# Altium schematic symbol library HW_ADHERENT_NFC_R1_L1.SchLib: 515 symbols (part 3 of 8)
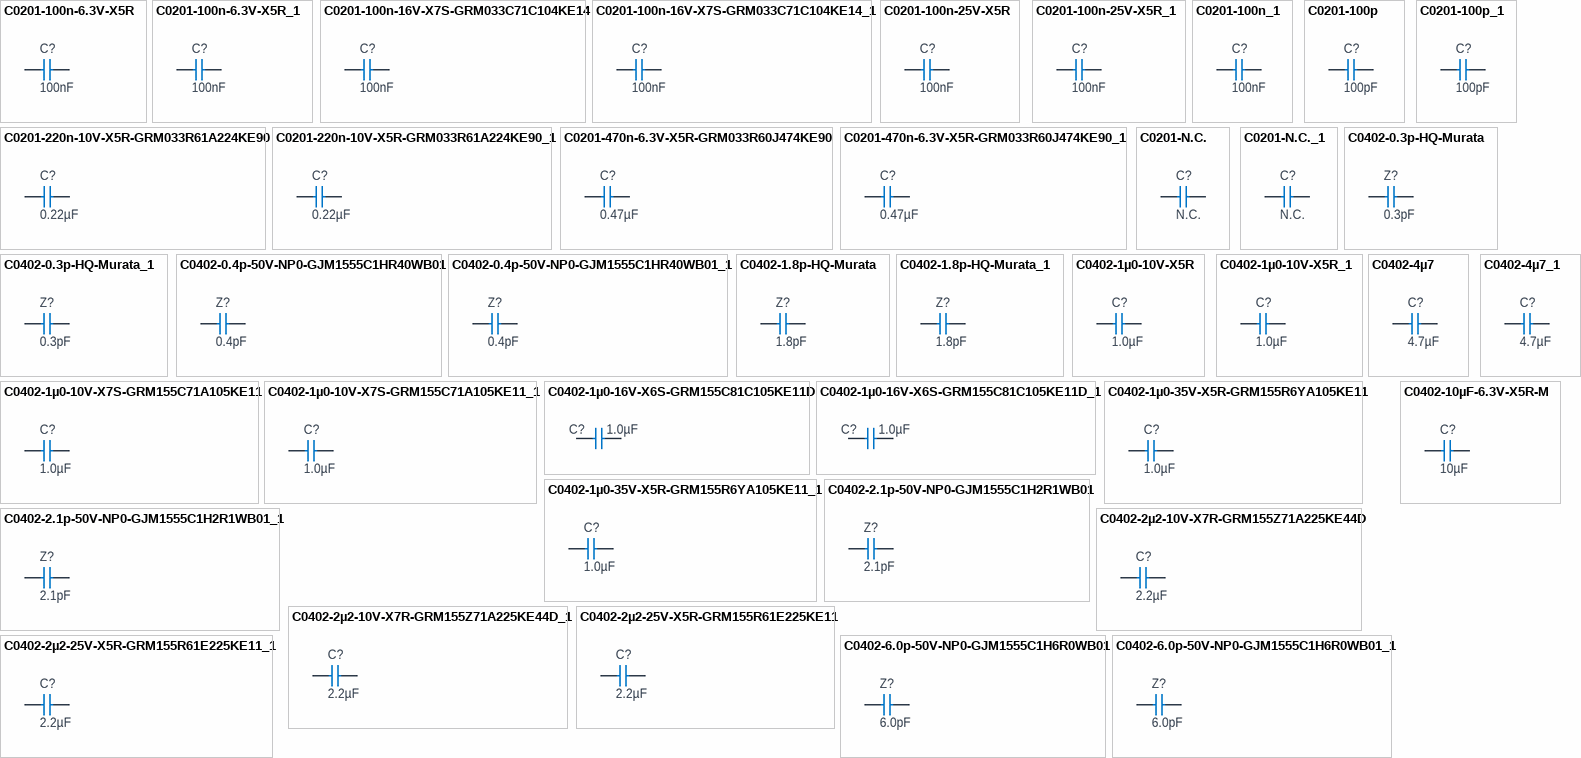
[diagram p17: symbols C0201-100n-6.3V-X5R to C0402-10µF-6.3V-X5R-M]

## C0402-1µ0-16V-X6S-GRM155C81C105KE11D_1
designator C?, comment 1.0µF
Capacitor, Ceramic, 1.0µF 16V X6S 0402,±10%; Part Number: C0402-1µ0-16V-X6S-GRM155C81C105KE11D; Manufacturer: Murata; Manufacturer Part Number: GRM155C81C105KE11D; Part number NEMS: 100200516; Pad Count: 2; Artikkelnr Noca: N.A.; Component Status: Active; Component Class: Capacitors; Author: prbu; ComponentLink1URL: https://www.murata.com/en-sg/products/productdetail?partno=GRM155C81C105KE11%23; ComponentLink1Description: Datasheet; ComponentLink2URL: https://www.digikey.com/en/products/detail/murata-electronics/GRM155C81C105KE11D/4905091; ComponentLink2Description: Supplier link; HelpURL: N.A.; Footprint Doc: 0402; LatestRevisionDate: 2023-01-03; Published: 2022-07-01; Value: 1.0µF; Note: 16V; Supplier 1: Digi-Key; Supplier Part Number 1: 490-12700-2-ND; Supplier 2: Mouser; Supplier Part Number 2: 81-GRM155C81C105KE1D; Part number IPS: N.A.; Part number Norautron: N.A.; PartId: 100200516
footprint CAPC1005X04L
pins: 1, 2

## C0402-1µ0-35V-X5R-GRM155R6YA105KE11
designator C?, comment 1.0µF
Capacitor, Ceramic, 1.0µF 35V X5R 0402,±10%; Part Number: C0402-1µ0-35V-X5R-GRM155R6YA105KE11; Manufacturer: Murata; Manufacturer Part Number: GRM155R6YA105KE11D; Part number NEMS: 100200489; Pad Count: 2; Artikkelnr Noca: N.A.; Component Status: Active; Component Class: Capacitors; Author: prbu; ComponentLink1URL: https://www.murata.com/en-sg/products/productdetail?partno=GRM155R6YA105KE11%23; ComponentLink1Description: Datasheet; ComponentLink2URL: https://www.digikey.com/en/products/detail/murata-electronics/GRM155R6YA105KE11D/4905162; ComponentLink2Description: Supplier link; HelpURL: N.A.; Footprint Doc: 0402; LatestRevisionDate: 2021-12-09; Published: 2021-12-09; Value: 1.0µF; Note: 35V; Supplier 1: Mouser; Supplier Part Number 1: 81-GRM155R6YA105KE1D; Supplier 2: Digi-Key; Supplier Part Number 2: 490-10019-1-ND; Part number IPS: N.A.; Part number Norautron: N.A.; PartId: 100200489
footprint CAPC1005X04L
pins: 1, 2

## C0402-1µ0-35V-X5R-GRM155R6YA105KE11_1
designator C?, comment 1.0µF
Capacitor, Ceramic, 1.0µF 35V X5R 0402,±10%; Part Number: C0402-1µ0-35V-X5R-GRM155R6YA105KE11; Manufacturer: Murata; Manufacturer Part Number: GRM155R6YA105KE11D; Part number NEMS: 100200489; Pad Count: 2; Artikkelnr Noca: N.A.; Component Status: Active; Component Class: Capacitors; Author: prbu; ComponentLink1URL: https://www.murata.com/en-sg/products/productdetail?partno=GRM155R6YA105KE11%23; ComponentLink1Description: Datasheet; ComponentLink2URL: https://www.digikey.com/en/products/detail/murata-electronics/GRM155R6YA105KE11D/4905162; ComponentLink2Description: Supplier link; HelpURL: N.A.; Footprint Doc: 0402; LatestRevisionDate: 2021-12-09; Published: 2021-12-09; Value: 1.0µF; Note: 35V; Supplier 1: Mouser; Supplier Part Number 1: 81-GRM155R6YA105KE1D; Supplier 2: Digi-Key; Supplier Part Number 2: 490-10019-1-ND; Part number IPS: N.A.; Part number Norautron: N.A.; PartId: 100200489
footprint CAPC1005X04L
pins: 1, 2

## C0402-2.1p-50V-NP0-GJM1555C1H2R1WB01
designator Z?, comment 2.1pF
Capacitor, NP0, ±0.05pF, 50V; Part Number: C0402-2.1p-50V-NP0-GJM1555C1H2R1WB01; Manufacturer: Murata; Manufacturer Part Number: GJM1555C1H2R1WB01D; Part number NEMS: 100200533; Pad Count: 2; Note: N.A.; Component Status: Active; Component Class: Capacitors; Author: rubr; ComponentLink1URL: https://search.murata.co.jp/Ceramy/image/img/A01X/G101/ENG/GJM1555C1H2R1WB01-01.pdf; ComponentLink1Description: Datasheet; ComponentLink2URL: https://www.digikey.com/en/products/detail/murata-electronics/GJM1555C1H2R1WB01D/2592918; ComponentLink2Description: Supplier link; HelpURL: https://www.murata.com/en-us/products/productdetail?partno=GJM1555C1H2R1WB01%23; Footprint Doc: 0402; LatestRevisionDate: 2022-12-16; Published: 2022-12-16; Value: 2.1pF; Supplier 1: Digi-Key; Supplier Part Number 1: 490-GJM1555C1H2R1WB01DCT-ND; Supplier 2: N.A.; Supplier Part Number 2: N.A.; Artikkelnr Noca: N.A.; Part number IPS: N.A.; Part number Norautron: N.A.; PartId: 100200533
footprint CAPC1005X04L
footprint C1608X06L-C1005X04M (Chip Capacitor, 2-Leads, Body 1.6x0.8mm, IPC High Density)
pins: 1, 2

## C0402-2.1p-50V-NP0-GJM1555C1H2R1WB01_1
designator Z?, comment 2.1pF
Capacitor, NP0, ±0.05pF, 50V; Part Number: C0402-2.1p-50V-NP0-GJM1555C1H2R1WB01; Manufacturer: Murata; Manufacturer Part Number: GJM1555C1H2R1WB01D; Part number NEMS: 100200533; Pad Count: 2; Note: N.A.; Component Status: Active; Component Class: Capacitors; Author: rubr; ComponentLink1URL: https://search.murata.co.jp/Ceramy/image/img/A01X/G101/ENG/GJM1555C1H2R1WB01-01.pdf; ComponentLink1Description: Datasheet; ComponentLink2URL: https://www.digikey.com/en/products/detail/murata-electronics/GJM1555C1H2R1WB01D/2592918; ComponentLink2Description: Supplier link; HelpURL: https://www.murata.com/en-us/products/productdetail?partno=GJM1555C1H2R1WB01%23; Footprint Doc: 0402; LatestRevisionDate: 2022-12-16; Published: 2022-12-16; Value: 2.1pF; Supplier 1: Digi-Key; Supplier Part Number 1: 490-GJM1555C1H2R1WB01DCT-ND; Supplier 2: N.A.; Supplier Part Number 2: N.A.; Artikkelnr Noca: N.A.; Part number IPS: N.A.; Part number Norautron: N.A.; PartId: 100200533
footprint CAPC1005X04L
footprint C1608X06L-C1005X04M (Chip Capacitor, 2-Leads, Body 1.6x0.8mm, IPC High Density)
pins: 1, 2

## C0402-2µ2-10V-X7R-GRM155Z71A225KE44D
designator C?, comment 2.2µF
Capacitor, Ceramic, X7R, ±10%, 10V; Part Number: C0402-2µ2-10V-X7R-GRM155Z71A225KE44D; Manufacturer: Murata; Manufacturer Part Number: GRM155Z71A225KE44D; Part number NEMS: 100200653; Component Status: Active; Pad Count: 2; Note: -55°C ~ 125°C; Artikkelnr Noca: N.A.; PartId: 100200653; Component Class: Capacitors; Author: ersa; ComponentLink1URL: https://search.murata.co.jp/Ceramy/image/img/A01X/G101/ENG/GRM155Z71A225KE44-01A.pdf; ComponentLink1Description: Datasheet; ComponentLink2URL: N.A.; ComponentLink2Description: Supplier link; HelpURL: N.A.; LatestRevisionDate: 2024-02-07; Published: 2024-02-07; Footprint Doc: 0402; Value: 2.2µF; Supplier 1: Digi-Key; Supplier Part Number 1: 490-GRM155Z71A225KE44DTR-ND; Supplier 2: N.A.; Supplier Part Number 2: N.A.; Part number IPS: N.A.; Part number Norautron: N.A.
footprint CAPC1005X04L_C2
pins: 1, 2

## C0402-2µ2-10V-X7R-GRM155Z71A225KE44D_1
designator C?, comment 2.2µF
Capacitor, Ceramic, X7R, ±10%, 10V; Part Number: C0402-2µ2-10V-X7R-GRM155Z71A225KE44D; Manufacturer: Murata; Manufacturer Part Number: GRM155Z71A225KE44D; Part number NEMS: 100200653; Component Status: Active; Pad Count: 2; Note: -55°C ~ 125°C; Artikkelnr Noca: N.A.; PartId: 100200653; Component Class: Capacitors; Author: ersa; ComponentLink1URL: https://search.murata.co.jp/Ceramy/image/img/A01X/G101/ENG/GRM155Z71A225KE44-01A.pdf; ComponentLink1Description: Datasheet; ComponentLink2URL: N.A.; ComponentLink2Description: Supplier link; HelpURL: N.A.; LatestRevisionDate: 2024-02-07; Published: 2024-02-07; Footprint Doc: 0402; Value: 2.2µF; Supplier 1: Digi-Key; Supplier Part Number 1: 490-GRM155Z71A225KE44DTR-ND; Supplier 2: N.A.; Supplier Part Number 2: N.A.; Part number IPS: N.A.; Part number Norautron: N.A.
footprint CAPC1005X04L_C2
pins: 1, 2

## C0402-2µ2-25V-X5R-GRM155R61E225KE11
designator C?, comment 2.2µF
Capacitor, Ceramic, 2.2µF 25V X5R 0402,±10%; Part Number: C0402-2µ2-25V-X5R-GRM155R61E225KE11; Manufacturer: Murata; Manufacturer Part Number: GRM155R61E225KE11D; Part number NEMS: 100200492; Pad Count: 2; Artikkelnr Noca: N.A.; Component Status: Active; Component Class: Capacitors; Author: prbu; ComponentLink1URL: https://www.murata.com/en-sg/products/productdetail?partno=GRM155R61E225KE11%23; ComponentLink1Description: Datasheet; ComponentLink2URL: https://www.mouser.com/ProductDetail/Murata-Electronics/GRM155R61E225KE11D?qs=eeBpzGFlv%252B8X58bIUndZvA%3D%3D; ComponentLink2Description: Supplier link; HelpURL: N.A.; Footprint Doc: 0402; LatestRevisionDate: 2021-12-09; Published: 2021-12-09; Value: 2.2µF; Note: 25V; Supplier 1: Mouser; Supplier Part Number 1: 81-GRM155R61E225KE1D; Supplier 2: Digi-Key; Supplier Part Number 2: 490-12703-1-ND; Part number IPS: N.A.; Part number Norautron: N.A.; PartId: 100200492
footprint CAPC1005X04L
pins: 1, 2

## C0402-2µ2-25V-X5R-GRM155R61E225KE11_1
designator C?, comment 2.2µF
Capacitor, Ceramic, 2.2µF 25V X5R 0402,±10%; Part Number: C0402-2µ2-25V-X5R-GRM155R61E225KE11; Manufacturer: Murata; Manufacturer Part Number: GRM155R61E225KE11D; Part number NEMS: 100200492; Pad Count: 2; Artikkelnr Noca: N.A.; Component Status: Active; Component Class: Capacitors; Author: prbu; ComponentLink1URL: https://www.murata.com/en-sg/products/productdetail?partno=GRM155R61E225KE11%23; ComponentLink1Description: Datasheet; ComponentLink2URL: https://www.mouser.com/ProductDetail/Murata-Electronics/GRM155R61E225KE11D?qs=eeBpzGFlv%252B8X58bIUndZvA%3D%3D; ComponentLink2Description: Supplier link; HelpURL: N.A.; Footprint Doc: 0402; LatestRevisionDate: 2021-12-09; Published: 2021-12-09; Value: 2.2µF; Note: 25V; Supplier 1: Mouser; Supplier Part Number 1: 81-GRM155R61E225KE1D; Supplier 2: Digi-Key; Supplier Part Number 2: 490-12703-1-ND; Part number IPS: N.A.; Part number Norautron: N.A.; PartId: 100200492
footprint CAPC1005X04L
pins: 1, 2

## C0402-4µ7
designator C?, comment 4.7µF
Capacitor, X5R, ±20%; Part Number: C0402-4µ7; Manufacturer: N.A.; Part number IPS: 00000001251, 00000007165; Part number NEMS: 100200193; Pad Count: 2; Component Status: Active; Note: 10V; Artikkelnr Noca: 20039482; Footprint Doc: 0402; Value: 4.7µF; Author: rsk; PartId: 100200193; Component Class: Capacitors; Manufacturer Part Number: N.A.; ComponentLink1URL: N.A.; ComponentLink1Description: Datasheet; ComponentLink2URL: N.A.; ComponentLink2Description: Supplier link; HelpURL: N.A.; LatestRevisionDate: 2017-11-09; Published: 2009-05-08; Supplier 1: Digi-Key; Supplier Part Number 1: 490-13252-1-ND; Supplier 2: N.A.; Supplier Part Number 2: N.A.; Part number Norautron: N.A.
footprint CAPC1005X04L
pins: 1, 2

## C0402-4µ7_1
designator C?, comment 4.7µF
Capacitor, X5R, ±20%; Part Number: C0402-4µ7; Manufacturer: N.A.; Part number IPS: 00000001251, 00000007165; Part number NEMS: 100200193; Pad Count: 2; Component Status: Active; Note: 10V; Artikkelnr Noca: 20039482; Footprint Doc: 0402; Value: 4.7µF; Author: rsk; PartId: 100200193; Component Class: Capacitors; Manufacturer Part Number: N.A.; ComponentLink1URL: N.A.; ComponentLink1Description: Datasheet; ComponentLink2URL: N.A.; ComponentLink2Description: Supplier link; HelpURL: N.A.; LatestRevisionDate: 2017-11-09; Published: 2009-05-08; Supplier 1: Digi-Key; Supplier Part Number 1: 490-13252-1-ND; Supplier 2: N.A.; Supplier Part Number 2: N.A.; Part number Norautron: N.A.
footprint CAPC1005X04L
pins: 1, 2

## C0402-6.0p-50V-NP0-GJM1555C1H6R0WB01
designator Z?, comment 6.0pF
Capacitor, NP0, ±0.05pF, 50V; Part Number: C0402-6.0p-50V-NP0-GJM1555C1H6R0WB01; Manufacturer: Murata; Manufacturer Part Number: GJM1555C1H6R0WB01D; Part number NEMS: 100200532; Pad Count: 2; Note: N.A.; Component Status: Active; Component Class: Capacitors; Author: rubr; ComponentLink1URL: https://search.murata.co.jp/Ceramy/image/img/A01X/G101/ENG/GJM1555C1H6R0WB01-01.pdf; ComponentLink1Description: Datasheet; ComponentLink2URL: https://www.digikey.com/en/products/detail/murata-electronics/GJM1555C1H6R0WB01D/2593066; ComponentLink2Description: Supplier link; HelpURL: https://www.murata.com/en-us/products/productdetail?partno=GJM1555C1H6R0WB01%23; Footprint Doc: 0402; LatestRevisionDate: 2022-12-16; Published: 2022-12-16; Value: 6.0pF; Supplier 1: Digi-Key; Supplier Part Number 1: 490-11230-1-ND; Supplier 2: N.A.; Supplier Part Number 2: N.A.; Artikkelnr Noca: N.A.; Part number IPS: N.A.; Part number Norautron: N.A.; PartId: 100200532
footprint CAPC1005X04L
footprint C1608X06L-C1005X04M (Chip Capacitor, 2-Leads, Body 1.6x0.8mm, IPC High Density)
pins: 1, 2

## C0402-6.0p-50V-NP0-GJM1555C1H6R0WB01_1
designator Z?, comment 6.0pF
Capacitor, NP0, ±0.05pF, 50V; Part Number: C0402-6.0p-50V-NP0-GJM1555C1H6R0WB01; Manufacturer: Murata; Manufacturer Part Number: GJM1555C1H6R0WB01D; Part number NEMS: 100200532; Pad Count: 2; Note: N.A.; Component Status: Active; Component Class: Capacitors; Author: rubr; ComponentLink1URL: https://search.murata.co.jp/Ceramy/image/img/A01X/G101/ENG/GJM1555C1H6R0WB01-01.pdf; ComponentLink1Description: Datasheet; ComponentLink2URL: https://www.digikey.com/en/products/detail/murata-electronics/GJM1555C1H6R0WB01D/2593066; ComponentLink2Description: Supplier link; HelpURL: https://www.murata.com/en-us/products/productdetail?partno=GJM1555C1H6R0WB01%23; Footprint Doc: 0402; LatestRevisionDate: 2022-12-16; Published: 2022-12-16; Value: 6.0pF; Supplier 1: Digi-Key; Supplier Part Number 1: 490-11230-1-ND; Supplier 2: N.A.; Supplier Part Number 2: N.A.; Artikkelnr Noca: N.A.; Part number IPS: N.A.; Part number Norautron: N.A.; PartId: 100200532
footprint CAPC1005X04L
footprint C1608X06L-C1005X04M (Chip Capacitor, 2-Leads, Body 1.6x0.8mm, IPC High Density)
pins: 1, 2

## C0402-10µF-6.3V-X5R-M
designator C?, comment 10µF
Multilayer Ceramic Capacitors MLCC - SMD/SMT 0402 6.3VDC 4.7uF 20% X6S; Part Number: C0402-10µF-6.3V-X5R-M; Manufacturer: Taiyo Yuden; Manufacturer Part Number: JMK105CBJ106MV-F; Part number NEMS: 100200467; Note: 6.3V; Artikkelnr Noca: N.A.; Pad Count: 2; Component Status: Active; ComponentLink1URL: https://www.yuden.co.jp/productdata/catalog/mlcc06_e.pdf; ComponentLink1Description: Datasheet; ComponentLink2URL: https://www.digikey.com/en/products/detail/taiyo-yuden/JMK105CBJ106MV-F/4970719?s=N4IgjCBcpgLFoDGUBmBDANgZwKYBoQB7KAbRACYBWcsSykAXQIAcAXKEAZVYCcBLAHYBzEAF8CYAGwIQySOmz4ipEAGYAnLQAcjFu0hdegkeIoAGWOplyFuAsUhkwZgAQBWgGK6QbDgFUBPlYAeRQAWRw0LABXHhwxAgBaCGhZVEw; ComponentLink2Description: Supplier link; HelpURL: https://ds.yuden.co.jp/TYCOMPAS/ut/detail?pn=JMK105BC6475MV-F&u=M; Footprint Doc: 0402; LatestRevisionDate: 2021-06-21; Published: 2021-04-06; Value: 10µF; Supplier 1: Digi-Key; Supplier Part Number 1: 587-5868-1-ND; Supplier 2: N.A.; Supplier Part Number 2: N.A.; Part number IPS: N.A.; Component Class: Capacitors; PartId: 100200467; Author: getr; Part number Norautron: N.A.
footprint CAPC1005X04L
pins: 1, 2

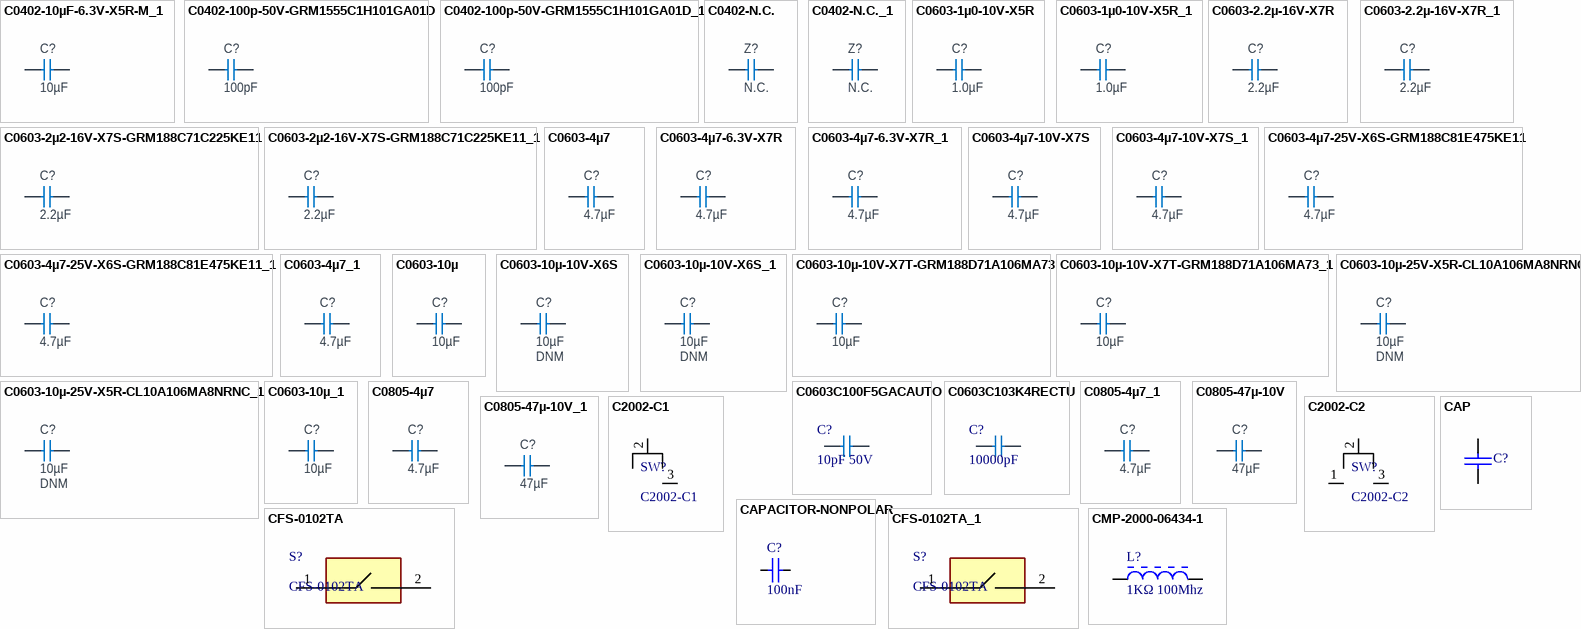
[diagram p4: symbols C0402-10µF-6.3V-X5R-M_1 to CMP-2000-06434-1]

## C0402-10µF-6.3V-X5R-M_1
designator C?, comment 10µF
Multilayer Ceramic Capacitors MLCC - SMD/SMT 0402 6.3VDC 4.7uF 20% X6S; Part Number: C0402-10µF-6.3V-X5R-M; Manufacturer: Taiyo Yuden; Manufacturer Part Number: JMK105CBJ106MV-F; Part number NEMS: 100200467; Note: 6.3V; Artikkelnr Noca: N.A.; Pad Count: 2; Component Status: Active; ComponentLink1URL: https://www.yuden.co.jp/productdata/catalog/mlcc06_e.pdf; ComponentLink1Description: Datasheet; ComponentLink2URL: https://www.digikey.com/en/products/detail/taiyo-yuden/JMK105CBJ106MV-F/4970719?s=N4IgjCBcpgLFoDGUBmBDANgZwKYBoQB7KAbRACYBWcsSykAXQIAcAXKEAZVYCcBLAHYBzEAF8CYAGwIQySOmz4ipEAGYAnLQAcjFu0hdegkeIoAGWOplyFuAsUhkwZgAQBWgGK6QbDgFUBPlYAeRQAWRw0LABXHhwxAgBaCGhZVEw; ComponentLink2Description: Supplier link; HelpURL: https://ds.yuden.co.jp/TYCOMPAS/ut/detail?pn=JMK105BC6475MV-F&u=M; Footprint Doc: 0402; LatestRevisionDate: 2021-06-21; Published: 2021-04-06; Value: 10µF; Supplier 1: Digi-Key; Supplier Part Number 1: 587-5868-1-ND; Supplier 2: N.A.; Supplier Part Number 2: N.A.; Part number IPS: N.A.; Component Class: Capacitors; PartId: 100200467; Author: getr; Part number Norautron: N.A.
footprint CAPC1005X04L
pins: 1, 2

## C0402-100p-50V-GRM1555C1H101GA01D
designator C?, comment 100pF
Capacitor, NP0, ±2%, 50V; Part Number: C0402-100p-50V-GRM1555C1H101GA01D; Manufacturer: Murata; Manufacturer Part Number: GRM1555C1H101GA01D; Component Status: Active; Pad Count: 2; Artikkelnr Noca: N.A.; Component Class: Capacitors; Author: getr; ComponentLink1URL: https://search.murata.co.jp/Ceramy/image/img/A01X/G101/ENG/GRM1555C1H101GA01-01.pdf; ComponentLink1Description: Datasheet; ComponentLink2URL: https://www.digikey.no/en/products/detail/murata-electronics/GRM1555C1H101GA01D/3693920; ComponentLink2Description: Supplier link; HelpURL: https://www.murata.com/en-eu/products/productdetail?partno=GRM1555C1H101GA01%23; Footprint Doc: 0402; LatestRevisionDate: 2024-09-23; Published: 2024-09-23; Value: 100pF; Note: 50V; Supplier 1: Digi-Key; Supplier Part Number 1: 490-6188-1-ND; Supplier 2: N.A.; Supplier Part Number 2: N.A.; Part number IPS: N.A.; Part number Norautron: N.A.
footprint CAPC1005X04L
pins: 1, 2

## C0402-100p-50V-GRM1555C1H101GA01D_1
designator C?, comment 100pF
Capacitor, NP0, ±2%, 50V; Part Number: C0402-100p-50V-GRM1555C1H101GA01D; Manufacturer: Murata; Manufacturer Part Number: GRM1555C1H101GA01D; Component Status: Active; Pad Count: 2; Artikkelnr Noca: N.A.; Component Class: Capacitors; Author: getr; ComponentLink1URL: https://search.murata.co.jp/Ceramy/image/img/A01X/G101/ENG/GRM1555C1H101GA01-01.pdf; ComponentLink1Description: Datasheet; ComponentLink2URL: https://www.digikey.no/en/products/detail/murata-electronics/GRM1555C1H101GA01D/3693920; ComponentLink2Description: Supplier link; HelpURL: https://www.murata.com/en-eu/products/productdetail?partno=GRM1555C1H101GA01%23; Footprint Doc: 0402; LatestRevisionDate: 2024-09-23; Published: 2024-09-23; Value: 100pF; Note: 50V; Supplier 1: Digi-Key; Supplier Part Number 1: 490-6188-1-ND; Supplier 2: N.A.; Supplier Part Number 2: N.A.; Part number IPS: N.A.; Part number Norautron: N.A.
footprint CAPC1005X04L
pins: 1, 2

## C0402-N.C.
designator Z?, comment N.C.
Not mounted; Part Number: C0402-N.C.; Manufacturer: N.A.; Part number NEMS: 100200105; Pad Count: 2; Note: Chip Cap; Assembly: Not mounted; Component Status: Active; Component Class: Capacitors; Author: rsk; Manufacturer Part Number: N.A.; ComponentLink1URL: N.A.; ComponentLink1Description: Datasheet; ComponentLink2URL: N.A.; ComponentLink2Description: Supplier link; HelpURL: N.A.; Footprint Doc: 0402; LatestRevisionDate: 2009-05-08; Published: 2009-05-08; Value: N.C.; Supplier 1: N.A.; Supplier Part Number 1: N.A.; Supplier 2: N.A.; Supplier Part Number 2: N.A.; Artikkelnr Noca: N.A.; Part number IPS: N.A.; Part number Norautron: N.A.; PartId: 100200105
footprint CAPC1005X04L_NC
footprint C1608X06L-C1005X04M (Chip Capacitor, 2-Leads, Body 1.6x0.8mm, IPC High Density)
pins: 1, 2

## C0402-N.C._1
designator Z?, comment N.C.
Not mounted; Part Number: C0402-N.C.; Manufacturer: N.A.; Part number NEMS: 100200105; Pad Count: 2; Note: Chip Cap; Assembly: Not mounted; Component Status: Active; Component Class: Capacitors; Author: rsk; Manufacturer Part Number: N.A.; ComponentLink1URL: N.A.; ComponentLink1Description: Datasheet; ComponentLink2URL: N.A.; ComponentLink2Description: Supplier link; HelpURL: N.A.; Footprint Doc: 0402; LatestRevisionDate: 2009-05-08; Published: 2009-05-08; Value: N.C.; Supplier 1: N.A.; Supplier Part Number 1: N.A.; Supplier 2: N.A.; Supplier Part Number 2: N.A.; Artikkelnr Noca: N.A.; Part number IPS: N.A.; Part number Norautron: N.A.; PartId: 100200105
footprint CAPC1005X04L_NC
footprint C1608X06L-C1005X04M (Chip Capacitor, 2-Leads, Body 1.6x0.8mm, IPC High Density)
pins: 1, 2

## C0603-1µ0-10V-X5R
designator C?, comment 1.0µF
Capacitor, Ceramic, 1.0µF 10V X5R 0603,±10%; Part Number: C0603-1µ0-10V-X5R; Manufacturer: N.A.; Part number NEMS: 100200528; Pad Count: 2; Component Status: Active; Manufacturer Part Number: N.A.; Footprint Doc: 0603; LatestRevisionDate: 2022-10-06; Published: 2022-10-06; Value: 1.0µF; Note: 10V; Artikkelnr Noca: N.A.; Part number IPS: N.A.; ComponentLink1URL: N.A.; ComponentLink1Description: Datasheet; ComponentLink2URL: N.A.; ComponentLink2Description: Supplier link; HelpURL: N.A.; Supplier 1: N.A.; Supplier Part Number 1: N.A.; Supplier 2: N.A.; Supplier Part Number 2: N.A.; Component Class: Capacitors; PartId: 100200528; Author: getr; Part number Norautron: N.A.
footprint CAPC1608X06L
pins: 1, 2

## C0603-1µ0-10V-X5R_1
designator C?, comment 1.0µF
Capacitor, Ceramic, 1.0µF 10V X5R 0603,±10%; Part Number: C0603-1µ0-10V-X5R; Manufacturer: N.A.; Part number NEMS: 100200528; Pad Count: 2; Component Status: Active; Manufacturer Part Number: N.A.; Footprint Doc: 0603; LatestRevisionDate: 2022-10-06; Published: 2022-10-06; Value: 1.0µF; Note: 10V; Artikkelnr Noca: N.A.; Part number IPS: N.A.; ComponentLink1URL: N.A.; ComponentLink1Description: Datasheet; ComponentLink2URL: N.A.; ComponentLink2Description: Supplier link; HelpURL: N.A.; Supplier 1: N.A.; Supplier Part Number 1: N.A.; Supplier 2: N.A.; Supplier Part Number 2: N.A.; Component Class: Capacitors; PartId: 100200528; Author: getr; Part number Norautron: N.A.
footprint CAPC1608X06L
pins: 1, 2

## C0603-2.2µ-16V-X7R
designator C?, comment 2.2µF
Capacitor, Ceramic, X7R, ±10%, 16V; Part Number: C0603-2.2µ-16V-X7R; Manufacturer: Taiyo Yuden; Manufacturer Part Number: EMK107BB7225KA-T; Part number NEMS: 100200439; Component Status: Active; Pad Count: 2; Artikkelnr Noca: N.A.; PartId: 100200439; Component Class: Capacitors; Author: rsk; ComponentLink1URL: https://ds.yuden.co.jp/TYCOMPAS/ut/specSheet?pn=EMK107BB7225KA-T; ComponentLink1Description: Datasheet; ComponentLink2URL: https://ds.yuden.co.jp/TYCOMPAS/ut/detail?pn=EMK107BB7225KA-T&u=M; ComponentLink2Description: Supplier link; HelpURL: https://www.digikey.no/product-detail/en/taiyo-yuden/EMK107BB7225KA-T/587-5835-2-ND/4970646; LatestRevisionDate: 2020-10-13; Published: 2020-02-03; Footprint Doc: 0603; Value: 2.2µF; Note: 16V; Supplier 1: Digi-Key; Supplier Part Number 1: 587-5835-2-ND; Supplier 2: N.A.; Supplier Part Number 2: N.A.; Part number IPS: N.A.; Part number Norautron: N.A.
footprint CAPC1608X06L
pins: 1, 2

## C0603-2.2µ-16V-X7R_1
designator C?, comment 2.2µF
Capacitor, Ceramic, X7R, ±10%, 16V; Part Number: C0603-2.2µ-16V-X7R; Manufacturer: Taiyo Yuden; Manufacturer Part Number: EMK107BB7225KA-T; Part number NEMS: 100200439; Component Status: Active; Pad Count: 2; Artikkelnr Noca: N.A.; PartId: 100200439; Component Class: Capacitors; Author: rsk; ComponentLink1URL: https://ds.yuden.co.jp/TYCOMPAS/ut/specSheet?pn=EMK107BB7225KA-T; ComponentLink1Description: Datasheet; ComponentLink2URL: https://ds.yuden.co.jp/TYCOMPAS/ut/detail?pn=EMK107BB7225KA-T&u=M; ComponentLink2Description: Supplier link; HelpURL: https://www.digikey.no/product-detail/en/taiyo-yuden/EMK107BB7225KA-T/587-5835-2-ND/4970646; LatestRevisionDate: 2020-10-13; Published: 2020-02-03; Footprint Doc: 0603; Value: 2.2µF; Note: 16V; Supplier 1: Digi-Key; Supplier Part Number 1: 587-5835-2-ND; Supplier 2: N.A.; Supplier Part Number 2: N.A.; Part number IPS: N.A.; Part number Norautron: N.A.
footprint CAPC1608X06L
pins: 1, 2

## C0603-2µ2-16V-X7S-GRM188C71C225KE11
designator C?, comment 2.2µF
Capacitor, Ceramic, 2.2µF 16V X7S 0603,±10%; Part Number: C0603-2µ2-16V-X7S-GRM188C71C225KE11; Manufacturer: Murata; Manufacturer Part Number: GRM188C71C225KE11D; Part number NEMS: 100200490; Pad Count: 2; Artikkelnr Noca: N.A.; Component Status: Active; PartId: 100200490; Component Class: Capacitors; Author: prbu; ComponentLink1URL: https://www.murata.com/en-sg/products/productdetail?partno=GRM188C71C225KE11%23; ComponentLink1Description: Datasheet; ComponentLink2URL: https://www.mouser.com/ProductDetail/Murata-Electronics/GRM188C71C225KE11D?qs=ipkqEa07%2FjwigLKmkO4MzA%3D%3D; ComponentLink2Description: Supplier link; HelpURL: N.A.; Footprint Doc: 0603; LatestRevisionDate: 2021-12-09; Published: 2021-12-09; Value: 2.2µF; Note: 16V; Supplier 1: Mouser; Supplier Part Number 1: 81-GRM188C71C225KE1D; Supplier 2: Digi-Key; Supplier Part Number 2: 490-12731-1-ND; Part number IPS: N.A.; Part number Norautron: N.A.
footprint CAPC1608X06L
pins: 1, 2

## C0603-2µ2-16V-X7S-GRM188C71C225KE11_1
designator C?, comment 2.2µF
Capacitor, Ceramic, 2.2µF 16V X7S 0603,±10%; Part Number: C0603-2µ2-16V-X7S-GRM188C71C225KE11; Manufacturer: Murata; Manufacturer Part Number: GRM188C71C225KE11D; Part number NEMS: 100200490; Pad Count: 2; Artikkelnr Noca: N.A.; Component Status: Active; PartId: 100200490; Component Class: Capacitors; Author: prbu; ComponentLink1URL: https://www.murata.com/en-sg/products/productdetail?partno=GRM188C71C225KE11%23; ComponentLink1Description: Datasheet; ComponentLink2URL: https://www.mouser.com/ProductDetail/Murata-Electronics/GRM188C71C225KE11D?qs=ipkqEa07%2FjwigLKmkO4MzA%3D%3D; ComponentLink2Description: Supplier link; HelpURL: N.A.; Footprint Doc: 0603; LatestRevisionDate: 2021-12-09; Published: 2021-12-09; Value: 2.2µF; Note: 16V; Supplier 1: Mouser; Supplier Part Number 1: 81-GRM188C71C225KE1D; Supplier 2: Digi-Key; Supplier Part Number 2: 490-12731-1-ND; Part number IPS: N.A.; Part number Norautron: N.A.
footprint CAPC1608X06L
pins: 1, 2

## C0603-4µ7
designator C?, comment 4.7µF
Capacitor, X5R, ±10%, 6.3V; Part Number: C0603-4µ7; Manufacturer: N.A.; Part number IPS: 00000007783; Part number NEMS: 100200274; Pad Count: 2; Component Status: Active; Artikkelnr Noca: 20069060; Component Class: Capacitors; Author: rsk; Footprint Doc: 0603; Value: 4.7µF; PartId: 100200274; Manufacturer Part Number: N.A.; ComponentLink1URL: N.A.; ComponentLink1Description: Datasheet; ComponentLink2URL: N.A.; ComponentLink2Description: Supplier link; HelpURL: N.A.; LatestRevisionDate: 2009-11-23; Published: 2009-05-08; Note: 6.3V; Supplier 1: N.A.; Supplier Part Number 1: N.A.; Supplier 2: N.A.; Supplier Part Number 2: N.A.; Part number Norautron: N.A.
footprint CAPC1608X06L
pins: 1, 2

## C0603-4µ7-6.3V-X7R
designator C?, comment 4.7µF
Capacitor, X7R, ±10%, 6.3V; Part Number: C0603-4µ7-6.3V-X7R; Manufacturer: Samsung Electro-Mechanics America; Manufacturer Part Number: CL10B475KQ8NQNC; Part number IPS: 00000002541; Part number Norautron: N.A.; Part number NEMS: 100200350; Pad Count: 2; Artikkelnr Noca: 20039473; Component Status: Active; Value: 4.7µF; Footprint Doc: 0603; Component Class: Capacitors; Author: rsk; ComponentLink1Description: Datasheet; ComponentLink1URL: N.A.; ComponentLink2Description: Supplier link; ComponentLink2URL: N.A.; HelpURL: http://media.digikey.com/pdf/Data%20Sheets/Samsung%20PDFs/CL10B475KQ8NQNC_Spec.pdf; LatestRevisionDate: 2015-06-10; Note: 6.3V; PartId: 100200350; Published: 2015-06-10; Supplier 1: Digi-Key; Supplier 2: N.A.; Supplier Part Number 1: 1276-2087-1-ND; Supplier Part Number 2: N.A.
footprint CAPC1608X06L
pins: 1, 2

## C0603-4µ7-6.3V-X7R_1
designator C?, comment 4.7µF
Capacitor, X7R, ±10%, 6.3V; Part Number: C0603-4µ7-6.3V-X7R; Manufacturer: Samsung Electro-Mechanics America; Manufacturer Part Number: CL10B475KQ8NQNC; Part number IPS: 00000002541; Part number Norautron: N.A.; Part number NEMS: 100200350; Pad Count: 2; Artikkelnr Noca: 20039473; Component Status: Active; Value: 4.7µF; Footprint Doc: 0603; Component Class: Capacitors; Author: rsk; ComponentLink1Description: Datasheet; ComponentLink1URL: N.A.; ComponentLink2Description: Supplier link; ComponentLink2URL: N.A.; HelpURL: http://media.digikey.com/pdf/Data%20Sheets/Samsung%20PDFs/CL10B475KQ8NQNC_Spec.pdf; LatestRevisionDate: 2015-06-10; Note: 6.3V; PartId: 100200350; Published: 2015-06-10; Supplier 1: Digi-Key; Supplier 2: N.A.; Supplier Part Number 1: 1276-2087-1-ND; Supplier Part Number 2: N.A.
footprint CAPC1608X06L
pins: 1, 2

## C0603-4µ7-10V-X7S
designator C?, comment 4.7µF
Capacitor, X7S, ±10%, 10V; Part Number: C0603-4µ7-10V-X7S; Manufacturer: N.A.; Part number IPS: 00000001779; Part number NEMS: 100200351; Pad Count: 2; Artikkelnr Noca: 20030013; Component Status: Active; Value: 4.7µF; Footprint Doc: 0603; Component Class: Capacitors; Author: rsk; ComponentLink1Description: Datasheet; ComponentLink1URL: N.A.; ComponentLink2Description: Supplier link; ComponentLink2URL: N.A.; HelpURL: N.A.; LatestRevisionDate: 2016-08-15; Manufacturer Part Number: N.A.; Note: 10V; PartId: 100200351; Part number Norautron: N.A.; Published: 2016-08-15; Supplier 1: Digi-Key; Supplier 2: N.A.; Supplier Part Number 1: 445-14258-1-ND; Supplier Part Number 2: N.A.
footprint CAPC1608X06L
pins: 1, 2

## C0603-4µ7-10V-X7S_1
designator C?, comment 4.7µF
Capacitor, X7S, ±10%, 10V; Part Number: C0603-4µ7-10V-X7S; Manufacturer: N.A.; Part number IPS: 00000001779; Part number NEMS: 100200351; Pad Count: 2; Artikkelnr Noca: 20030013; Component Status: Active; Value: 4.7µF; Footprint Doc: 0603; Component Class: Capacitors; Author: rsk; ComponentLink1Description: Datasheet; ComponentLink1URL: N.A.; ComponentLink2Description: Supplier link; ComponentLink2URL: N.A.; HelpURL: N.A.; LatestRevisionDate: 2016-08-15; Manufacturer Part Number: N.A.; Note: 10V; PartId: 100200351; Part number Norautron: N.A.; Published: 2016-08-15; Supplier 1: Digi-Key; Supplier 2: N.A.; Supplier Part Number 1: 445-14258-1-ND; Supplier Part Number 2: N.A.
footprint CAPC1608X06L
pins: 1, 2

## C0603-4µ7-25V-X6S-GRM188C81E475KE11
designator C?, comment 4.7µF
Capacitor, Ceramic, 4.7µF 25V X6S 0603,±10%; Part Number: C0603-4µ7-25V-X6S-GRM188C81E475KE11; Manufacturer: Murata; Manufacturer Part Number: GRM188C81E475KE11D; Part number NEMS: 100200486; Pad Count: 2; Artikkelnr Noca: N.A.; Component Status: Active; Component Class: Capacitors; Author: prbu; ComponentLink1URL: https://www.murata.com/en-global/products/productdetail?partno=GRM188C81E475KE11%23; ComponentLink1Description: Datasheet; ComponentLink2URL: https://www.digikey.com/en/products/detail/murata-electronics/GRM188C81E475KE11D/3900424; ComponentLink2Description: Supplier link; HelpURL: N.A.; Footprint Doc: 0603; LatestRevisionDate: 2021-12-09; Published: 2021-12-09; Value: 4.7µF; Note: 25V; Supplier 1: Digi-Key; Supplier Part Number 1: 490-7199-1-ND; Supplier 2: Mouser; Supplier Part Number 2: 81-GRM188C81E475KE1D; Part number IPS: N.A.; Part number Norautron: N.A.; PartId: 100200486
footprint CAPC1608X06L
pins: 1, 2

## C0603-4µ7-25V-X6S-GRM188C81E475KE11_1
designator C?, comment 4.7µF
Capacitor, Ceramic, 4.7µF 25V X6S 0603,±10%; Part Number: C0603-4µ7-25V-X6S-GRM188C81E475KE11; Manufacturer: Murata; Manufacturer Part Number: GRM188C81E475KE11D; Part number NEMS: 100200486; Pad Count: 2; Artikkelnr Noca: N.A.; Component Status: Active; Component Class: Capacitors; Author: prbu; ComponentLink1URL: https://www.murata.com/en-global/products/productdetail?partno=GRM188C81E475KE11%23; ComponentLink1Description: Datasheet; ComponentLink2URL: https://www.digikey.com/en/products/detail/murata-electronics/GRM188C81E475KE11D/3900424; ComponentLink2Description: Supplier link; HelpURL: N.A.; Footprint Doc: 0603; LatestRevisionDate: 2021-12-09; Published: 2021-12-09; Value: 4.7µF; Note: 25V; Supplier 1: Digi-Key; Supplier Part Number 1: 490-7199-1-ND; Supplier 2: Mouser; Supplier Part Number 2: 81-GRM188C81E475KE1D; Part number IPS: N.A.; Part number Norautron: N.A.; PartId: 100200486
footprint CAPC1608X06L
pins: 1, 2

## C0603-4µ7_1
designator C?, comment 4.7µF
Capacitor, X5R, ±10%, 6.3V; Part Number: C0603-4µ7; Manufacturer: N.A.; Part number IPS: 00000007783; Part number NEMS: 100200274; Pad Count: 2; Component Status: Active; Artikkelnr Noca: 20069060; Component Class: Capacitors; Author: rsk; Footprint Doc: 0603; Value: 4.7µF; PartId: 100200274; Manufacturer Part Number: N.A.; ComponentLink1URL: N.A.; ComponentLink1Description: Datasheet; ComponentLink2URL: N.A.; ComponentLink2Description: Supplier link; HelpURL: N.A.; LatestRevisionDate: 2009-11-23; Published: 2009-05-08; Note: 6.3V; Supplier 1: N.A.; Supplier Part Number 1: N.A.; Supplier 2: N.A.; Supplier Part Number 2: N.A.; Part number Norautron: N.A.
footprint CAPC1608X06L
pins: 1, 2

## C0603-10µ
designator C?, comment 10µF
Capacitor, X5R, ±20%; Part Number: C0603-10µ; Manufacturer: N.A.; Part number IPS: 00000007785; Part number NEMS: 100200275; Note: 6.3V; Artikkelnr Noca: 20039234; Pad Count: 2; Component Status: Active; Manufacturer Part Number: N.A.; ComponentLink1URL: N.A.; ComponentLink1Description: Datasheet; ComponentLink2URL: N.A.; ComponentLink2Description: Supplier link; HelpURL: N.A.; Footprint Doc: 0603; LatestRevisionDate: 2011-01-17; Published: 2011-01-17; Value: 10µF; Supplier 1: N.A.; Supplier Part Number 1: N.A.; Supplier 2: N.A.; Supplier Part Number 2: N.A.; Component Class: Capacitors; PartId: 100200275; Author: rsk; Part number Norautron: N.A.
footprint CAPC1608X06L
pins: 1, 2

## C0603-10µ-10V-X6S
designator C?, comment 10µF  Assembly: DNM
Capacitor, X6S, ±10%; Part Number: C0603-10µ-10V-X6S; Manufacturer: N.A.; Part number NEMS: 100200470; Component Status: Active; Pad Count: 2; Note: 10V; PartId: 100200470; Component Class: Capacitors; Author: getr; Manufacturer Part Number: N.A.; ComponentLink1URL: N.A.; ComponentLink1Description: Datasheet; ComponentLink2URL: N.A.; ComponentLink2Description: Supplier link; HelpURL: N.A.; LatestRevisionDate: 2021-04-13; Published: 2021-04-13; Footprint Doc: 0603; Value: 10µF; Supplier 1: N.A.; Supplier Part Number 1: N.A.; Supplier 2: N.A.; Supplier Part Number 2: N.A.; Artikkelnr Noca: N.A.; Part number IPS: N.A.; Part number Norautron: N.A.
footprint CAPC1608X06L
pins: 1, 2

## C0603-10µ-10V-X6S_1
designator C?, comment 10µF  Assembly: DNM
Capacitor, X6S, ±10%; Part Number: C0603-10µ-10V-X6S; Manufacturer: N.A.; Part number NEMS: 100200470; Component Status: Active; Pad Count: 2; Note: 10V; PartId: 100200470; Component Class: Capacitors; Author: getr; Manufacturer Part Number: N.A.; ComponentLink1URL: N.A.; ComponentLink1Description: Datasheet; ComponentLink2URL: N.A.; ComponentLink2Description: Supplier link; HelpURL: N.A.; LatestRevisionDate: 2021-04-13; Published: 2021-04-13; Footprint Doc: 0603; Value: 10µF; Supplier 1: N.A.; Supplier Part Number 1: N.A.; Supplier 2: N.A.; Supplier Part Number 2: N.A.; Artikkelnr Noca: N.A.; Part number IPS: N.A.; Part number Norautron: N.A.
footprint CAPC1608X06L
pins: 1, 2

## C0603-10µ-10V-X7T-GRM188D71A106MA73
designator C?, comment 10µF
Capacitor, X7T, ±20%, 10V; Part Number: C0603-10µ-10V-X7T-GRM188D71A106MA73; Manufacturer: Murata; Manufacturer Part Number: GRM188D71A106MA73D; Part number IPS: 00000004696; Part number NEMS: 100200414; Pad Count: 2; Component Status: Active; Note: 10VDC; Artikkelnr Noca: N.A.; Component Class: Capacitors; Author: rsk; Footprint Doc: 0603; Value: 10µF; PartId: 100200414; ComponentLink1URL: N.A.; ComponentLink1Description: Datasheet; ComponentLink2URL: N.A.; ComponentLink2Description: Supplier link; HelpURL: https://no.mouser.com/datasheet/2/281/murata_03052018_GRM_Series_1-1310166.pdf; LatestRevisionDate: 2021-07-22; Published: 2018-09-11; Supplier 1: Digi-Key; Supplier Part Number 1: 490-7200-1-ND; Supplier 2: Mouser; Supplier Part Number 2: 81-GRM188D71A106MA3D; Part number Norautron: N.A.
footprint CAPC1608X06L
pins: 1, 2

## C0603-10µ-10V-X7T-GRM188D71A106MA73_1
designator C?, comment 10µF
Capacitor, X7T, ±20%, 10V; Part Number: C0603-10µ-10V-X7T-GRM188D71A106MA73; Manufacturer: Murata; Manufacturer Part Number: GRM188D71A106MA73D; Part number IPS: 00000004696; Part number NEMS: 100200414; Pad Count: 2; Component Status: Active; Note: 10VDC; Artikkelnr Noca: N.A.; Component Class: Capacitors; Author: rsk; Footprint Doc: 0603; Value: 10µF; PartId: 100200414; ComponentLink1URL: N.A.; ComponentLink1Description: Datasheet; ComponentLink2URL: N.A.; ComponentLink2Description: Supplier link; HelpURL: https://no.mouser.com/datasheet/2/281/murata_03052018_GRM_Series_1-1310166.pdf; LatestRevisionDate: 2021-07-22; Published: 2018-09-11; Supplier 1: Digi-Key; Supplier Part Number 1: 490-7200-1-ND; Supplier 2: Mouser; Supplier Part Number 2: 81-GRM188D71A106MA3D; Part number Norautron: N.A.
footprint CAPC1608X06L
pins: 1, 2

## C0603-10µ-25V-X5R-CL10A106MA8NRNC
designator C?, comment 10µF  Assembly: DNM
Capacitor, X5R, ±20%, 25V; Part Number: C0603-10µ-25V-X5R-CL10A106MA8NRNC; Manufacturer: Samsung Electro-Mechanics America; Manufacturer Part Number: CL10A106MA8NRNC; Part number IPS: 00000009948; Part number Norautron: N.A.; Part number NEMS: 100200354; Artikkelnr Noca: 20039436; Pad Count: 2; Component Status: Active; ComponentLink1URL: N.A.; ComponentLink1Description: Datasheet; ComponentLink2URL: N.A.; ComponentLink2Description: Supplier link; HelpURL: http://www.samsungsem.com/kr/front/downloadcms.do?path=/kr/support/product-search/mlcc/__icsFiles/afieldfile/2014/11/05&fileName=S_CL10A106MA8NRNC.pdf; Footprint Doc: 0603; LatestRevisionDate: 2021-07-21; Published: 2015-04-10; Value: 10µF; Note: 25V; Supplier 1: Digi-Key; Supplier Part Number 1: 1276-1869-1-ND; Supplier 2: N.A.; Supplier Part Number 2: N.A.; Component Class: Capacitors; PartId: 100200354; Author: rsk
footprint CAPC1608X06L
pins: 1, 2

## C0603-10µ-25V-X5R-CL10A106MA8NRNC_1
designator C?, comment 10µF  Assembly: DNM
Capacitor, X5R, ±20%, 25V; Part Number: C0603-10µ-25V-X5R-CL10A106MA8NRNC; Manufacturer: Samsung Electro-Mechanics America; Manufacturer Part Number: CL10A106MA8NRNC; Part number IPS: 00000009948; Part number Norautron: N.A.; Part number NEMS: 100200354; Artikkelnr Noca: 20039436; Pad Count: 2; Component Status: Active; ComponentLink1URL: N.A.; ComponentLink1Description: Datasheet; ComponentLink2URL: N.A.; ComponentLink2Description: Supplier link; HelpURL: http://www.samsungsem.com/kr/front/downloadcms.do?path=/kr/support/product-search/mlcc/__icsFiles/afieldfile/2014/11/05&fileName=S_CL10A106MA8NRNC.pdf; Footprint Doc: 0603; LatestRevisionDate: 2021-07-21; Published: 2015-04-10; Value: 10µF; Note: 25V; Supplier 1: Digi-Key; Supplier Part Number 1: 1276-1869-1-ND; Supplier 2: N.A.; Supplier Part Number 2: N.A.; Component Class: Capacitors; PartId: 100200354; Author: rsk
footprint CAPC1608X06L
pins: 1, 2

## C0603-10µ_1
designator C?, comment 10µF
Capacitor, X5R, ±20%; Part Number: C0603-10µ; Manufacturer: N.A.; Part number IPS: 00000007785; Part number NEMS: 100200275; Note: 6.3V; Artikkelnr Noca: 20039234; Pad Count: 2; Component Status: Active; Manufacturer Part Number: N.A.; ComponentLink1URL: N.A.; ComponentLink1Description: Datasheet; ComponentLink2URL: N.A.; ComponentLink2Description: Supplier link; HelpURL: N.A.; Footprint Doc: 0603; LatestRevisionDate: 2011-01-17; Published: 2011-01-17; Value: 10µF; Supplier 1: N.A.; Supplier Part Number 1: N.A.; Supplier 2: N.A.; Supplier Part Number 2: N.A.; Component Class: Capacitors; PartId: 100200275; Author: rsk; Part number Norautron: N.A.
footprint CAPC1608X06L
pins: 1, 2

## C0603C100F5GACAUTO
designator C?, comment 10pF 50V
10 pF ±1% 50V Ceramic Capacitor C0G, NP0 0603 (1608 Metric); Manufacturer: KEMET; Supplier: Digi; 399-C0603C100F5GACAUTODKR-ND
footprint CAPC1608X100N
pins: 1, 2

## C0603C103K4RECTU
designator C?, comment 10000pF
10000 pF ±10% 16V Ceramic Capacitor X7R 0603 (1608 Metric); Manufacturer: KEMET; Supplier: Digi; 399-C0603C103K4RECTUDKR-ND; JLCPCB PART#: 0603
footprint CAPC1608X100N
pins: 1, 2

## C0805-4µ7
designator C?, comment 4.7µF
Capacitor, X5R, ±10%, 16V; Part Number: C0805-4µ7; Manufacturer: N.A.; Part number IPS: 00000006289; Part number NEMS: 100200284; Pad Count: 2; Component Status: Active; Artikkelnr Noca: 20039266; Footprint Doc: 0805; Value: 4.7µF; Author: rsk; PartId: 100200284; Component Class: Capacitors; Manufacturer Part Number: N.A.; ComponentLink1URL: N.A.; ComponentLink1Description: Datasheet; ComponentLink2URL: N.A.; ComponentLink2Description: Supplier link; HelpURL: N.A.; LatestRevisionDate: 2020-04-28; Published: 2009-08-21; Note: 16V; Supplier 1: N.A.; Supplier Part Number 1: N.A.; Supplier 2: N.A.; Supplier Part Number 2: N.A.; Part number Norautron: N.A.
footprint CAPC2012X11L
pins: 1, 2

## C0805-4µ7_1
designator C?, comment 4.7µF
Capacitor, X5R, ±10%, 16V; Part Number: C0805-4µ7; Manufacturer: N.A.; Part number IPS: 00000006289; Part number NEMS: 100200284; Pad Count: 2; Component Status: Active; Artikkelnr Noca: 20039266; Footprint Doc: 0805; Value: 4.7µF; Author: rsk; PartId: 100200284; Component Class: Capacitors; Manufacturer Part Number: N.A.; ComponentLink1URL: N.A.; ComponentLink1Description: Datasheet; ComponentLink2URL: N.A.; ComponentLink2Description: Supplier link; HelpURL: N.A.; LatestRevisionDate: 2020-04-28; Published: 2009-08-21; Note: 16V; Supplier 1: N.A.; Supplier Part Number 1: N.A.; Supplier 2: N.A.; Supplier Part Number 2: N.A.; Part number Norautron: N.A.
footprint CAPC2012X11L
pins: 1, 2

## C0805-47µ-10V
designator C?, comment 47µF
Capacitor, X5R, ±20%, 10V; Part Number: C0805-47µ-10V; Manufacturer: Murata; Manufacturer Part Number: GRM21BR61A476ME15; Part number IPS: 00000004759; Part number NEMS: 100200288; Pad Count: 2; Component Status: Active; Artikkelnr Noca: N.A.; Footprint Doc: 0805; Value: 47µF; Author: rsk; PartId: 100200288; Component Class: Capacitors; ComponentLink1URL: https://search.murata.co.jp/Ceramy/image/img/A01X/G101/ENG/GRM21BR61A476ME15-01A.pdf; ComponentLink1Description: Datasheet; ComponentLink2URL: N.A.; ComponentLink2Description: Supplier link; HelpURL: https://www.murata.com/en-global/products/productdetail?partno=GRM21BR61A476ME15%23; LatestRevisionDate: 2020-10-23; Published: 2020-08-14; Note: 10V; Supplier 1: Digi-Key; Supplier Part Number 1: 490-9961-1-ND; Supplier 2: N.A.; Supplier Part Number 2: N.A.; Part number Norautron: N.A.
footprint CAPC2012X11L
pins: 1, 2

## C0805-47µ-10V_1
designator C?, comment 47µF
Capacitor, X5R, ±20%, 10V; Part Number: C0805-47µ-10V; Manufacturer: Murata; Manufacturer Part Number: GRM21BR61A476ME15; Part number IPS: 00000004759; Part number NEMS: 100200288; Pad Count: 2; Component Status: Active; Artikkelnr Noca: N.A.; Footprint Doc: 0805; Value: 47µF; Author: rsk; PartId: 100200288; Component Class: Capacitors; ComponentLink1URL: https://search.murata.co.jp/Ceramy/image/img/A01X/G101/ENG/GRM21BR61A476ME15-01A.pdf; ComponentLink1Description: Datasheet; ComponentLink2URL: N.A.; ComponentLink2Description: Supplier link; HelpURL: https://www.murata.com/en-global/products/productdetail?partno=GRM21BR61A476ME15%23; LatestRevisionDate: 2020-10-23; Published: 2020-08-14; Note: 10V; Supplier 1: Digi-Key; Supplier Part Number 1: 490-9961-1-ND; Supplier 2: N.A.; Supplier Part Number 2: N.A.; Part number Norautron: N.A.
footprint CAPC2012X11L
pins: 1, 2

## C2002-C1
designator SW?
ST-Single Pole, / Single Throw, / Momentary; MANUFACTURER PART NUMBER: C2002-C1; MPN: C2002-C1; ComponentLink1Description: Manufaturer; ComponentLink1URL: http://www.cha-switch.com/eng/product/32_66
footprint C3002-C1
pins: 2, 3

## C2002-C2
designator SW?
C3002 Series SPDT DT-Single Pole, / Double Throw(Double / Action),Momentary; MANUFACTURER PART NUMBER: C2002-C2; MPN: C2002-C2; ComponentLink1Description: Manufaturer; ComponentLink1URL: http://www.cha-switch.com/eng/product/32_66
footprint C3002-C2
pins: 1, 2, 3

## CAP
designator C?
Capacitor
footprint 0603 (SMD CAPACITOR)
footprint 0805
footprint 1206_plus
pins: 1, 2

## CAPACITOR-NONPOLAR
designator C?, comment 100nF
CATEGORY: *; LUNA-STOCK-CODE: *; MPN: *; VALUE: 100nF
footprint C0201 (MCC 0201)
footprint C0402 (MCC 0402)
footprint C0603 (MCC 0603)
footprint C0805 (MCC 0805)
footprint C1206 (MCC 1206)
footprint X2 15MM (AXİAL CAPACITOR)
footprint SAFETYCAP (AXİAL CAPACITOR)
footprint X2 22.5MM (AXİAL CAPACITOR)
footprint X2 10MM (AXİAL CAPACITOR)
footprint X2 15MM_1 (AXIAL CAPACITOR)
footprint X2 18MM (AXIAL CAPACITOR)
footprint C1210 (SMD CAPACITOR)
footprint X2_15MM (AXIAL CAPACITOR)
footprint SAFETYCAP_1 (AXIAL CAPACITOR)
pins: 1, 2

## CFS-0102TA
designator S?
Dip Switch SPST 1 Position Surface Mount Slide (Standard) Actuator 100mA 6VDC; Manufacturer_Name: Nidec Copal; Datasheet Link: https://www.mouser.at/datasheet/2/972/cfs-1628139.pdf; Height: 4.5mm; Manufacturer_Part_Number: CFS-0102TA; Mouser Part Number: 229-CFS-0102TA; Mouser Price/Stock: https://www.mouser.co.uk/ProductDetail/Nidec-Components/CFS-0102TA?qs=XeJtXLiO41Qa%2Fz7Gp%252BxLVg%3D%3D
footprint CFS0102TA
pins: 1 COM, 2 NO

## CFS-0102TA_1
designator S?, comment CFS-0102TA
Dip Switch SPST 1 Position Surface Mount Slide (Standard) Actuator 100mA 6VDC; Manufacturer_Name: Nidec Copal; Datasheet Link: https://www.mouser.at/datasheet/2/972/cfs-1628139.pdf; Height: 4.5mm; Manufacturer_Part_Number: CFS-0102TA; Mouser Part Number: 229-CFS-0102TA; Mouser Price/Stock: https://www.mouser.co.uk/ProductDetail/Nidec-Components/CFS-0102TA?qs=XeJtXLiO41Qa%2Fz7Gp%252BxLVg%3D%3D
footprint CFS0102TA
pins: 1 COM, 2 NO

## CMP-2000-06434-1
designator L?, comment 1KΩ 100Mhz
1KΩ 100Mhz 0603 0.2A; Manufacturer: Laird; Manufacturer Part Number: HZ0603B102R-10; Current Rating (Max): 200mA; Other Names: 240-2378-1; Online Catalog: HZSeries; Catalog Drawings: (HI,HZ,LI,MI)0603Series_0.95mmMax.Height; Impedance @ Frequency: 1kOhm@100MHz; Kits: 240-2227-ND-KITEMIFERRITEBEADCHIPSMD; Filter Type: SignalLine; DC Resistance (DCR) (Max): 600mOhm; Number of Lines: 1; Standard Package: 1; Operating Temperature: -40°C~125°C; Package Reference: 0603; Category: Filters; Series: HZ; Packaging: CutTape(CT); Manufacturer URL: https://www.lairdtech.com/; Family: FerriteBeadsandChips; Mounting Technology: SurfaceMount; Height (Max): 0.037"(0.95mm); Datasheet Version: Rev. C, 08/2013; Ratings: -; Package Description: 2-Pin Surface Mount Device, Body 1.6 x 0.8 mm; Size / Dimension: 0.063"Lx0.031"W(1.60mmx0.80mm); Mounting Type: SurfaceMount; Package / Case: 0603(1608Metric); Datasheet URL: http://cdn.lairdtech.com/home/brandworld/files/HZ0603B102R-10.pdf
footprint LIRD-HZ0603C601R-10-2_V (SMD, 2-Leads, Body 1.6x0.8mm)
pins: 1, 2

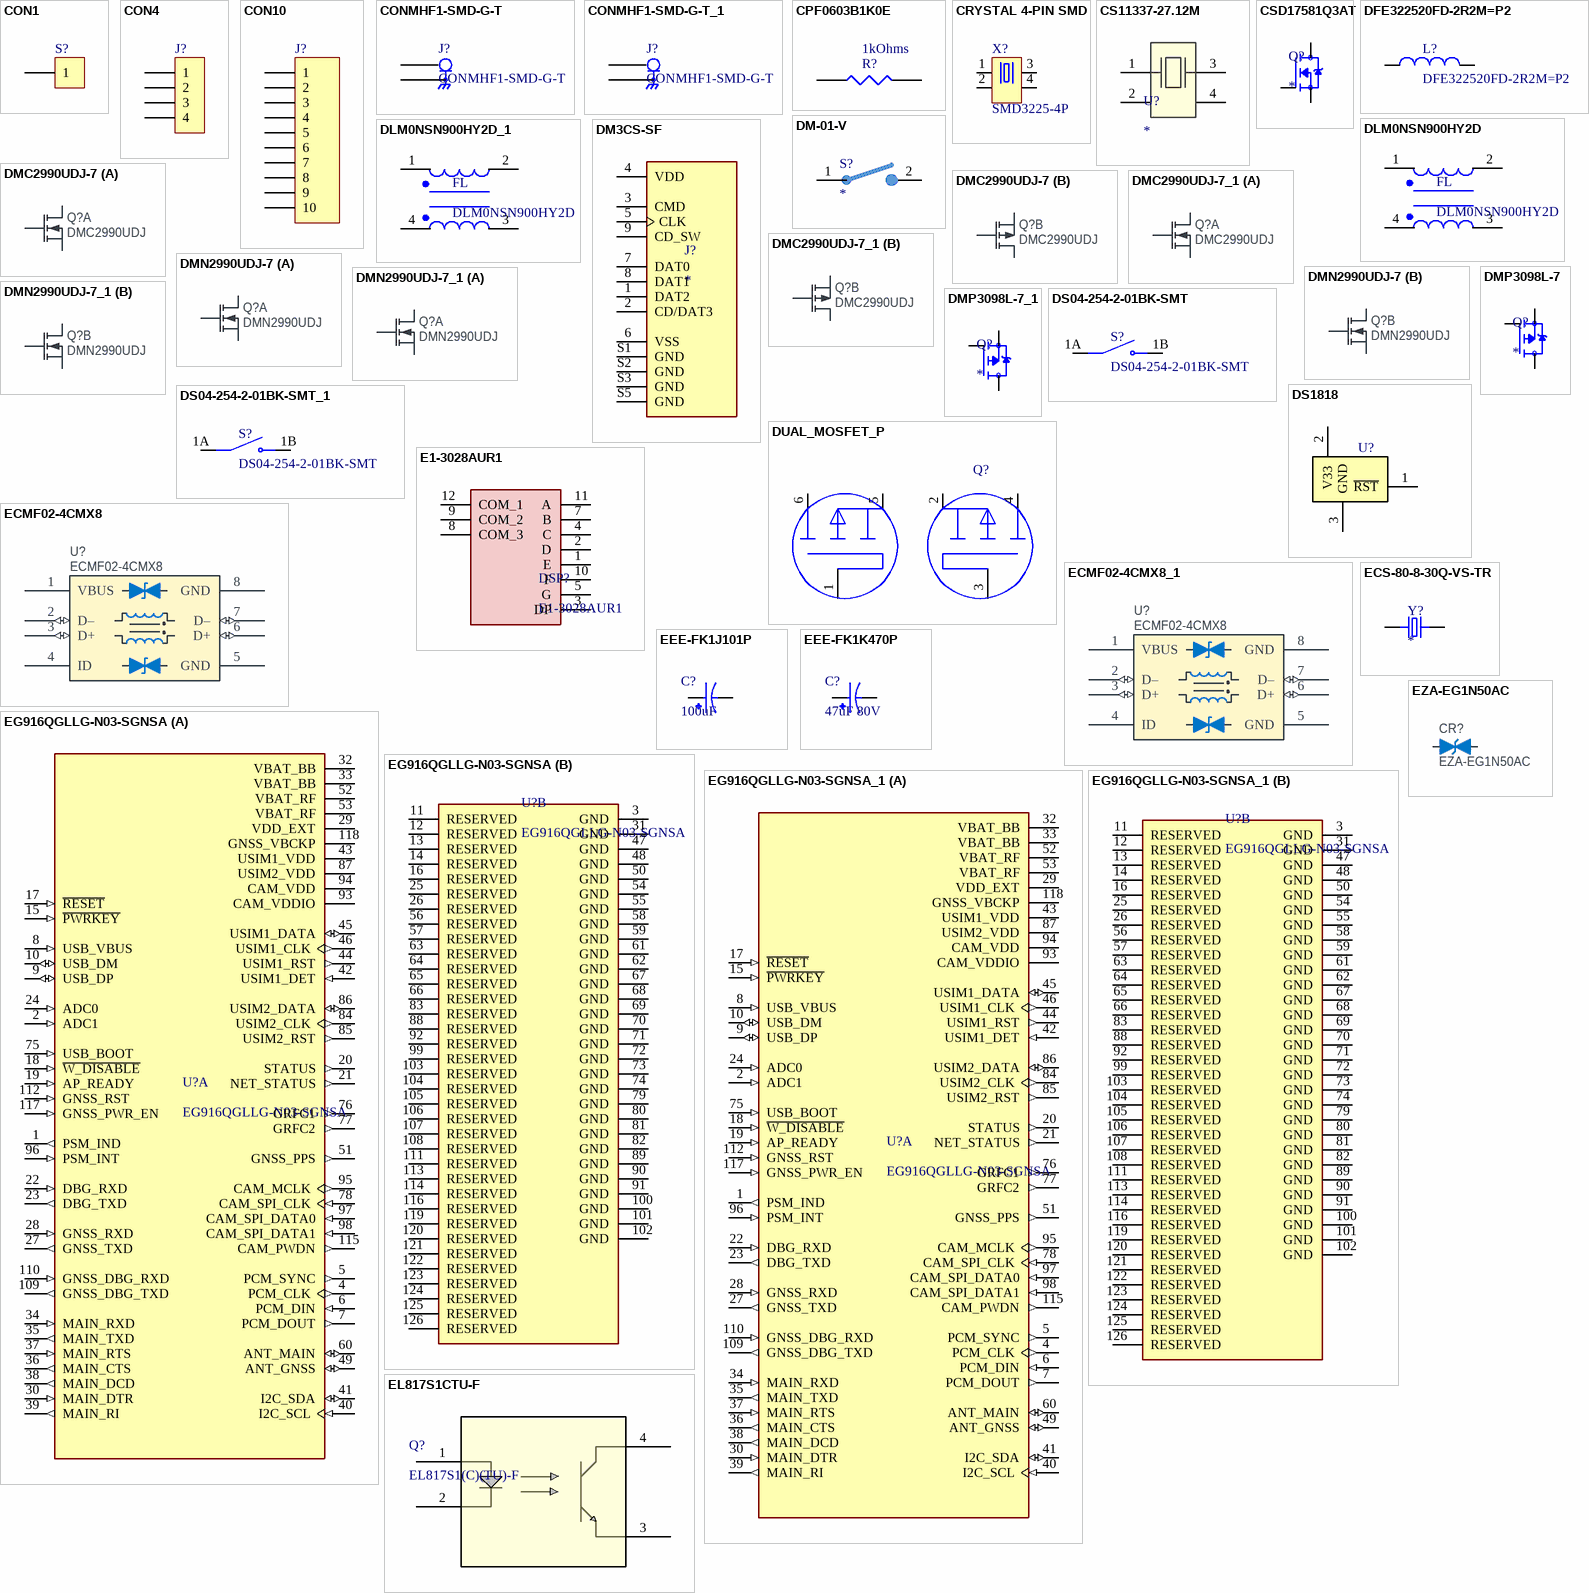
[diagram p5: symbols CON1 to EZA-EG1N50AC]

## CON1
designator S?
Connector
footprint 1pin
pins: 1

## CON4
designator J?
Connector
footprint 4pin
pins: 1, 2, 3, 4

## CON10
designator J?
Connector
footprint 10pin
pins: 1, 2, 3, 4, 5, 6, 7, 8, 9, 10

## CONMHF1-SMD-G-T
designator J?
U.FL/MHF1 Jack 50 Ohm PCB Surface Mount; MF: TE Connectivity; SnapEDA_Link: https://www.snapeda.com/parts/CONMHF1-SMD-G-T/TE+Connectivity/view-part/?ref=snap; Package: None; Value: *; MP: CONMHF1-SMD-G-T; Check_prices: https://www.snapeda.com/parts/CONMHF1-SMD-G-T/TE+Connectivity/view-part/?ref=eda
footprint LINX_CONMHF1-SMD-G-T
pins: 1, S1 2, S2 2, S3 2

## CONMHF1-SMD-G-T_1
designator J?, comment CONMHF1-SMD-G-T
U.FL/MHF1 Jack 50 Ohm PCB Surface Mount; MF: TE Connectivity; SnapEDA_Link: https://www.snapeda.com/parts/CONMHF1-SMD-G-T/TE+Connectivity/view-part/?ref=snap; Package: None; Value: *; MP: CONMHF1-SMD-G-T; Check_prices: https://www.snapeda.com/parts/CONMHF1-SMD-G-T/TE+Connectivity/view-part/?ref=eda
footprint LINX_CONMHF1-SMD-G-T
pins: 1, S1 2, S2 2, S3 2

## CPF0603B1K0E
designator R?, comment 1kOhms
RES SMD 1K OHM 0.1% 1/16W 0603; Manufacturer: TE Connectivity; Manufacturer Lifecycle Status: ACTIVE; Manufacturer Part Number: CPF0603B1K0E; Max Power Dissipation: 63mW; Number of Resistors: 1; Operating Supply Voltage: 50V; Temperature Coefficient: 25ppm/°C; Case Code (Metric): 1608; Case/Package: 0603; Category: Chip SMD Resistors; China RoHS: Compliant; Composition: Thin Film; Depth: 800µm; ELV: Compliant; Export Control Classification Number (ECCN) Code: EAR99; Harmonized Tariff Schedule (HTS) Code: 8533.21.00.30; Height: 450µm; Introduction Date: 2009-09-20; Length: 1.55mm; Lifecycle Status: Production; Max Operating Temperature: 155°C; Min Operating Temperature: -55°C; Mounting Technology: Surface Mount; Number of Terminals: 2; Number of Terminations: 2; Packaging: Tape and Reel; Power Rating: 63mW; Radiation Hardening: No; REACH SVHC: Yes; RoHS: Compliant; Schedule B: 8533210045|8533210045|8533210045|8533210045|8533210045; Termination: Solder; Tolerance: 0.1%; Voltage Rating: 50V; Voltage Rating (DC): 50V; Weight: 2.012816mg; Width: 800µm; Working Voltage: 50V; Value: 1kOhms
footprint RESC0603X03L_C (Chip Resistor, 2-Leads, Body 0.6x0.3mm, IPC High Density)
pins: 1, 2

## CRYSTAL 4-PIN SMD
designator X?, comment SMD3225-4P
ABRACON ABM8G-25.000MHZ-B4Y-T; CATEGORY: *; LUNA-STOCK-CODE: *; MPN: *; VALUE: SMD3225-4P
footprint CRYSTAL 4-SMD (0.126" L x 0.098" W (3.20mm x 2.50mm))
pins: 1, 2 GND (power), 3 2, 4 GND (power)

## CS11337-27.12M
designator U?
27.12 MHz ±30ppm Crystal 6pF 60 Ohms 4-SMD, No Lead; Manıfacturer: NDK (NIHON DEMPA KOGYO CO., LTD); Supplier: 644-CS11337-27.12MDKR-ND
footprint NX2016SA2712MHZEXS00ACS11337
pins: 1 CRYSTAL_1, 2 GND_1, 3 CRYSTAL_2, 4 GND_2

## CSD17581Q3AT
designator Q?
30-V, N channel NexFETâ„¢ power MOSFET, single SON 3 mm x 3 mm, 4.7 mOhm; MF: Texas Instruments; MP: CSD17581Q3AT; SnapEDA_Link: https://www.snapeda.com/parts/CSD17581Q3AT/Texas+Instruments/view-part/?ref=snap; Package: VSONP-8 Texas Instruments; Value: *; Check_prices: https://www.snapeda.com/parts/CSD17581Q3AT/Texas+Instruments/view-part/?ref=eda
footprint TRANS_CSD17581Q3AT
pins: 1 S, 2 S, 3 S, 4 G, 5_9 D

## DFE322520FD-2R2M=P2
designator L?
2.2 µH Shielded Drum Core, Wirewound Inductor 2.9 A 46mOhm Max 1210 (3225 Metric); Package: None; Price: None; Value: *; MP: DFE322520FD-2R2M=P2; Availability: Unavailable
footprint INDC3225X200N
pins: 1, 2

## DLM0NSN900HY2D
designator FL
2 Line Common Mode Choke Surface Mount 90 Ohms @ 100MHz 100mA DCR 5Ohm; MF: Murata; Value: *; Price: None; Package: 0302 Murata; SnapEDA_Link: https://www.snapeda.com/parts/DLM0NSN900HY2D/Murata/view-part/4300478/?ref=snap; Availability: Unavailable; MP: DLM0NSN900HY2D
footprint FIL_DLM0NSN900HY2D
pins: 1, 2, 3, 4

## DLM0NSN900HY2D_1
designator FL, comment DLM0NSN900HY2D
2 Line Common Mode Choke Surface Mount 90 Ohms @ 100MHz 100mA DCR 5Ohm; MF: Murata; Value: *; Price: None; Package: 0302 Murata; SnapEDA_Link: https://www.snapeda.com/parts/DLM0NSN900HY2D/Murata/view-part/4300478/?ref=snap; Availability: Unavailable; MP: DLM0NSN900HY2D
footprint FIL_DLM0NSN900HY2D
pins: 1, 2, 3, 4